# Altium footprint library HTSSOP-14(5.0X4.4).PcbLib: 1 footprints
Each footprint in its own frame and in the unit in brackets; x right, y up, seen from the top. Pads: shape width x height; smd on the part's side, far side on the other; paste and mask are expansions set on the pad; w line width, h text height; cw(c..) or ccw(c..) is an arc to the next point about the centre after c.
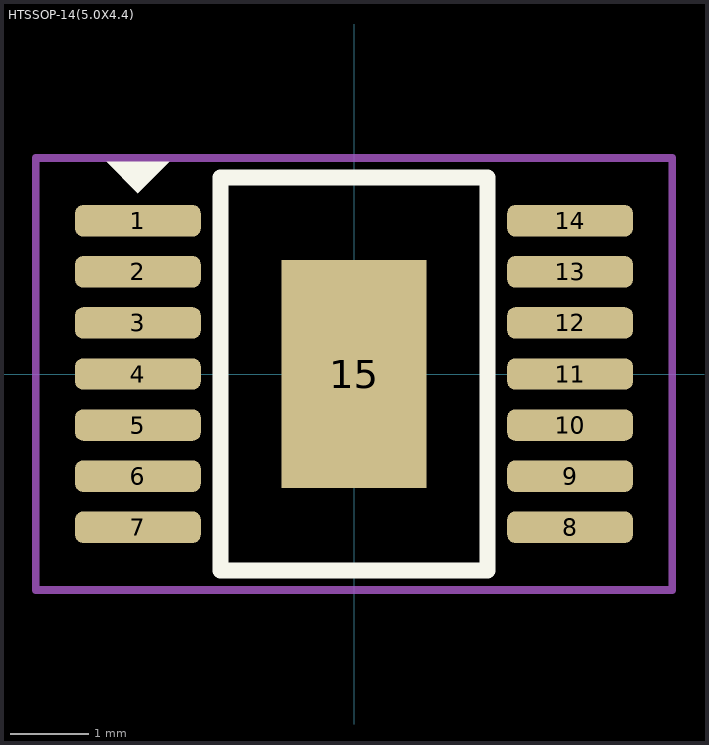
[diagram p0: the footprint, top view; thin cyan lines are the x and y axes]

## HTSSOP-14(5.0X4.4) [mm]
pads (15):
  rrect50% 1.6x0.4 smd: 1(-2.75,1.95) 2(-2.75,1.3) 3(-2.75,0.65) 4(-2.75,0) 5(-2.75,-0.65) 6(-2.75,-1.3) 7(-2.75,-1.95) 8(2.75,-1.95) 9(2.75,-1.3) 10(2.75,-0.65) 11(2.75,0) 12(2.75,0.65) 13(2.75,1.3) 14(2.75,1.95)
  rect 1.85x2.9 smd: 15(0,0)
Top Overlay:
  region: -3.15,2.7 -2.35,2.7 -2.75,2.3
  lines w0.2: -1.7,-2.5 -1.7,2.5 1.7,2.5 1.7,-2.5 -1.7,-2.5
Top Courtyard:
  lines w0.1: -4.05,-2.75 -1.7,-2.75 4.05,-2.75 4.05,2.75 -4.05,2.75 -4.05,-2.75
3D body "TXB0104PWR--3DModel-STEP-56544.STEP": height 1.2, standoff 0, extent -3.2,-2.5 3.2,2.5